# Altium footprint library SW 5mmX5mm.PcbLib: 1 footprints
Each footprint in its own frame and in the unit in brackets; x right, y up, seen from the top. Pads: shape width x height; smd on the part's side, far side on the other; paste and mask are expansions set on the pad; w line width, h text height; cw(c..) or ccw(c..) is an arc to the next point about the centre after c.
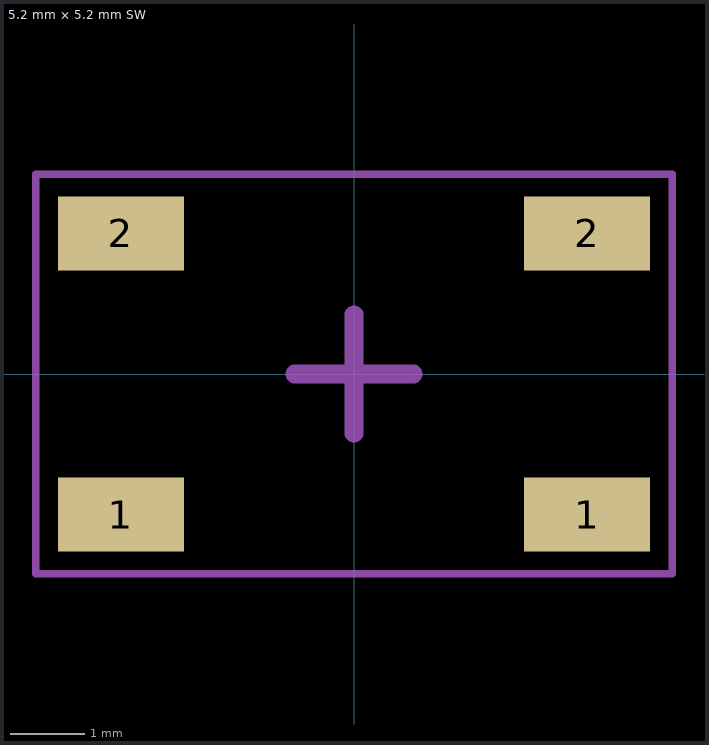
[diagram p0: the footprint, top view; thin cyan lines are the x and y axes]

## 5.2 mm × 5.2 mm SW [mm] "SWITCH TACTILE SPST-NO 0.05A  TL3342F260QG"
height 1.5
pads (4):
  rect 1.7x1 smd: 1(-3.15,-1.9) 1(3.15,-1.9) 2(-3.15,1.9) 2(3.15,1.9)
Mechanical 15:
  lines w0.1: -4.3,-2.7 -4.3,2.7 4.3,2.7 4.3,-2.7 -4.3,-2.7
  lines w0.254: -0.8,0 0.8,0 ; 0,-0.8 0,0.8
3D body "TL3342F260 SMD Switch v1.step": height 1.52, standoff 0.01, extent -3.3,-2.5 3.3,2.5